# Altium footprint library Capacitor_THT.PcbLib: 378 footprints (part 7 of 24)
Each footprint in its own frame and in the unit in brackets; x right, y up, seen from the top. Pads: shape width x height; smd on the part's side, far side on the other; paste and mask are expansions set on the pad; w line width, h text height; cw(c..) or ccw(c..) is an arc to the next point about the centre after c.
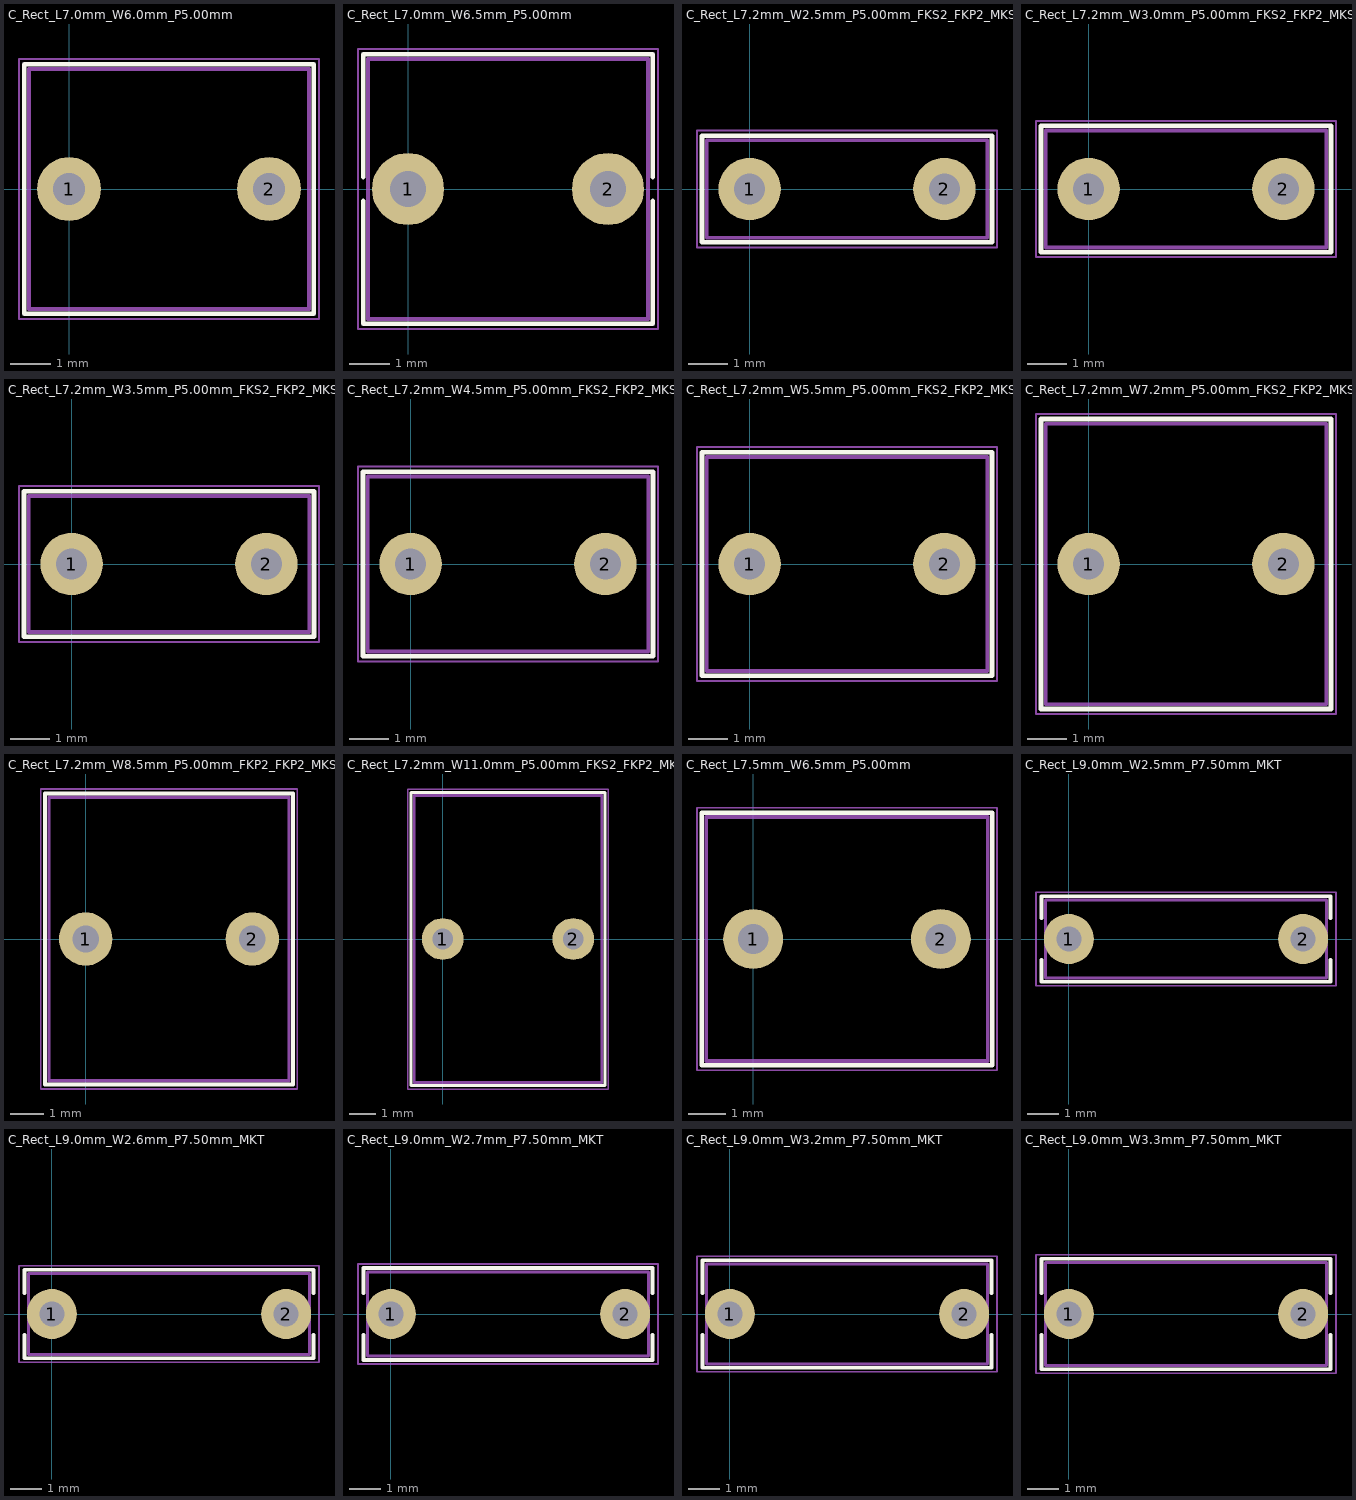
[diagram p6: the footprints below, top view; thin cyan lines are the x and y axes]

## C_Rect_L7.0mm_W6.0mm_P5.00mm [mm]
pads (2):
  round 1.6 hole 0.8: 1(0,0) 2(5,0)
F.SilkS:
  lines w0.12: -1.12,-3.12 6.12,-3.12 6.12,3.12 -1.12,3.12 -1.12,-3.12
F.CrtYd:
  lines w0.05: -1.25,-3.25 -1.25,3.25 6.25,3.25 6.25,-3.25 -1.25,-3.25
F.Fab:
  lines w0.1: -1,-3 -1,3 6,3 6,-3 -1,-3
  text "'.Designator'" at -1.547,-0.84 h1

## C_Rect_L7.0mm_W6.5mm_P5.00mm [mm]
pads (2):
  round 1.8 hole 0.9: 1(0,0) 2(5,0)
F.SilkS:
  lines w0.12: -1.12,-0.301 -1.12,-3.37 6.12,-3.37 6.12,-0.301 ; -1.12,0.301 -1.12,3.37 6.12,3.37 6.12,0.301
F.CrtYd:
  lines w0.05: -1.25,-3.5 -1.25,3.5 6.25,3.5 6.25,-3.5 -1.25,-3.5
F.Fab:
  lines w0.1: -1,-3.25 -1,3.25 6,3.25 6,-3.25 -1,-3.25
  text "'.Designator'" at -1.547,-0.84 h1

## C_Rect_L7.2mm_W2.5mm_P5.00mm_FKS2_FKP2_MKS2_MKP2 [mm]
pads (2):
  round 1.6 hole 0.8: 1(0,0) 2(5,0)
F.SilkS:
  lines w0.12: -1.22,-1.37 -1.22,1.37 6.22,1.37 6.22,-1.37 -1.22,-1.37
F.CrtYd:
  lines w0.05: -1.35,-1.5 -1.35,1.5 6.35,1.5 6.35,-1.5 -1.35,-1.5
F.Fab:
  lines w0.1: -1.1,-1.25 -1.1,1.25 6.1,1.25 6.1,-1.25 -1.1,-1.25
  text "'.Designator'" at -1.547,-0.84 h1

## C_Rect_L7.2mm_W3.0mm_P5.00mm_FKS2_FKP2_MKS2_MKP2 [mm]
pads (2):
  round 1.6 hole 0.8: 1(0,0) 2(5,0)
F.SilkS:
  lines w0.12: -1.22,-1.62 6.22,-1.62 6.22,1.62 -1.22,1.62 -1.22,-1.62
F.CrtYd:
  lines w0.05: -1.35,-1.75 6.35,-1.75 6.35,1.75 -1.35,1.75 -1.35,-1.75
F.Fab:
  lines w0.1: -1.1,-1.5 -1.1,1.5 6.1,1.5 6.1,-1.5 -1.1,-1.5
  text "'.Designator'" at -1.547,-0.84 h1

## C_Rect_L7.2mm_W3.5mm_P5.00mm_FKS2_FKP2_MKS2_MKP2 [mm]
pads (2):
  round 1.6 hole 0.8: 1(0,0) 2(5,0)
F.SilkS:
  lines w0.12: -1.22,-1.87 6.22,-1.87 6.22,1.87 -1.22,1.87 -1.22,-1.87
F.CrtYd:
  lines w0.05: -1.35,-2 6.35,-2 6.35,2 -1.35,2 -1.35,-2
F.Fab:
  lines w0.1: -1.1,-1.75 6.1,-1.75 6.1,1.75 -1.1,1.75 -1.1,-1.75
  text "'.Designator'" at -1.547,-0.84 h1

## C_Rect_L7.2mm_W4.5mm_P5.00mm_FKS2_FKP2_MKS2_MKP2 [mm]
pads (2):
  round 1.6 hole 0.8: 1(0,0) 2(5,0)
F.SilkS:
  lines w0.12: -1.22,-2.37 6.22,-2.37 6.22,2.37 -1.22,2.37 -1.22,-2.37
F.CrtYd:
  lines w0.05: -1.35,-2.5 6.35,-2.5 6.35,2.5 -1.35,2.5 -1.35,-2.5
F.Fab:
  lines w0.1: -1.1,-2.25 6.1,-2.25 6.1,2.25 -1.1,2.25 -1.1,-2.25
  text "'.Designator'" at -1.547,-0.84 h1

## C_Rect_L7.2mm_W5.5mm_P5.00mm_FKS2_FKP2_MKS2_MKP2 [mm]
pads (2):
  round 1.6 hole 0.8: 1(0,0) 2(5,0)
F.SilkS:
  lines w0.12: -1.22,-2.87 6.22,-2.87 6.22,2.87 -1.22,2.87 -1.22,-2.87
F.CrtYd:
  lines w0.05: -1.35,-3 6.35,-3 6.35,3 -1.35,3 -1.35,-3
F.Fab:
  lines w0.1: -1.1,-2.75 -1.1,2.75 6.1,2.75 6.1,-2.75 -1.1,-2.75
  text "'.Designator'" at -1.547,-0.84 h1

## C_Rect_L7.2mm_W7.2mm_P5.00mm_FKS2_FKP2_MKS2_MKP2 [mm]
pads (2):
  round 1.6 hole 0.8: 1(0,0) 2(5,0)
F.SilkS:
  lines w0.12: -1.22,-3.72 -1.22,3.72 6.22,3.72 6.22,-3.72 -1.22,-3.72
F.CrtYd:
  lines w0.05: -1.35,-3.85 6.35,-3.85 6.35,3.85 -1.35,3.85 -1.35,-3.85
F.Fab:
  lines w0.1: -1.1,-3.6 6.1,-3.6 6.1,3.6 -1.1,3.6 -1.1,-3.6
  text "'.Designator'" at -1.547,-0.84 h1

## C_Rect_L7.2mm_W8.5mm_P5.00mm_FKP2_FKP2_MKS2_MKP2 [mm]
pads (2):
  round 1.6 hole 0.8: 1(0,0) 2(5,0)
F.SilkS:
  lines w0.12: -1.22,-4.37 6.22,-4.37 6.22,4.37 -1.22,4.37 -1.22,-4.37
F.CrtYd:
  lines w0.05: -1.35,-4.5 -1.35,4.5 6.35,4.5 6.35,-4.5 -1.35,-4.5
F.Fab:
  lines w0.1: -1.1,-4.25 6.1,-4.25 6.1,4.25 -1.1,4.25 -1.1,-4.25
  text "'.Designator'" at -1.547,-0.84 h1

## C_Rect_L7.2mm_W11.0mm_P5.00mm_FKS2_FKP2_MKS2_MKP2 [mm]
pads (2):
  round 1.6 hole 0.8: 1(0,0) 2(5,0)
F.SilkS:
  lines w0.12: -1.22,-5.62 6.22,-5.62 6.22,5.62 -1.22,5.62 -1.22,-5.62
F.CrtYd:
  lines w0.05: -1.35,-5.75 -1.35,5.75 6.35,5.75 6.35,-5.75 -1.35,-5.75
F.Fab:
  lines w0.1: -1.1,-5.5 -1.1,5.5 6.1,5.5 6.1,-5.5 -1.1,-5.5
  text "'.Designator'" at -1.547,-0.84 h1

## C_Rect_L7.5mm_W6.5mm_P5.00mm [mm]
pads (2):
  round 1.6 hole 0.8: 1(0,0) 2(5,0)
F.SilkS:
  lines w0.12: -1.37,-3.37 6.37,-3.37 6.37,3.37 -1.37,3.37 -1.37,-3.37
F.CrtYd:
  lines w0.05: -1.5,-3.5 -1.5,3.5 6.5,3.5 6.5,-3.5 -1.5,-3.5
F.Fab:
  lines w0.1: -1.25,-3.25 -1.25,3.25 6.25,3.25 6.25,-3.25 -1.25,-3.25
  text "'.Designator'" at -1.547,-0.84 h1

## C_Rect_L9.0mm_W2.5mm_P7.50mm_MKT [mm]
pads (2):
  round 1.6 hole 0.8: 1(0,0) 2(7.5,0)
F.SilkS:
  lines w0.12: -0.87,-0.665 -0.87,-1.37 8.37,-1.37 8.37,-0.665 ; -0.87,0.665 -0.87,1.37 8.37,1.37 8.37,0.665
F.CrtYd:
  lines w0.05: -1.05,-1.5 8.55,-1.5 8.55,1.5 -1.05,1.5 -1.05,-1.5
F.Fab:
  lines w0.1: -0.75,-1.25 8.25,-1.25 8.25,1.25 -0.75,1.25 -0.75,-1.25
  text "'.Designator'" at -0.297,-0.84 h1

## C_Rect_L9.0mm_W2.6mm_P7.50mm_MKT [mm]
pads (2):
  round 1.6 hole 0.8: 1(0,0) 2(7.5,0)
F.SilkS:
  lines w0.12: -0.87,-0.665 -0.87,-1.42 8.37,-1.42 8.37,-0.665 ; -0.87,0.665 -0.87,1.42 8.37,1.42 8.37,0.665
F.CrtYd:
  lines w0.05: -1.05,-1.55 8.55,-1.55 8.55,1.55 -1.05,1.55 -1.05,-1.55
F.Fab:
  lines w0.1: -0.75,-1.3 8.25,-1.3 8.25,1.3 -0.75,1.3 -0.75,-1.3
  text "'.Designator'" at -0.297,-0.84 h1

## C_Rect_L9.0mm_W2.7mm_P7.50mm_MKT [mm]
pads (2):
  round 1.6 hole 0.8: 1(0,0) 2(7.5,0)
F.SilkS:
  lines w0.12: -0.87,-0.665 -0.87,-1.471 8.37,-1.471 8.37,-0.665 ; -0.87,0.665 -0.87,1.471 8.37,1.471 8.37,0.665
F.CrtYd:
  lines w0.05: -1.05,-1.6 8.55,-1.6 8.55,1.6 -1.05,1.6 -1.05,-1.6
F.Fab:
  lines w0.1: -0.75,-1.35 -0.75,1.35 8.25,1.35 8.25,-1.35 -0.75,-1.35
  text "'.Designator'" at -0.297,-0.84 h1

## C_Rect_L9.0mm_W3.2mm_P7.50mm_MKT [mm]
pads (2):
  round 1.6 hole 0.8: 1(0,0) 2(7.5,0)
F.SilkS:
  lines w0.12: -0.87,-0.665 -0.87,-1.721 8.37,-1.721 8.37,-0.665 ; -0.87,0.665 -0.87,1.721 8.37,1.721 8.37,0.665
F.CrtYd:
  lines w0.05: -1.05,-1.85 8.55,-1.85 8.55,1.85 -1.05,1.85 -1.05,-1.85
F.Fab:
  lines w0.1: -0.75,-1.6 -0.75,1.6 8.25,1.6 8.25,-1.6 -0.75,-1.6
  text "'.Designator'" at -0.297,-0.84 h1

## C_Rect_L9.0mm_W3.3mm_P7.50mm_MKT [mm]
pads (2):
  round 1.6 hole 0.8: 1(0,0) 2(7.5,0)
F.SilkS:
  lines w0.12: -0.87,-0.665 -0.87,-1.77 8.37,-1.77 8.37,-0.665 ; -0.87,0.665 -0.87,1.77 8.37,1.77 8.37,0.665
F.CrtYd:
  lines w0.05: -1.05,-1.9 -1.05,1.9 8.55,1.9 8.55,-1.9 -1.05,-1.9
F.Fab:
  lines w0.1: -0.75,-1.65 8.25,-1.65 8.25,1.65 -0.75,1.65 -0.75,-1.65
  text "'.Designator'" at -0.297,-0.84 h1